# Altium schematic symbol library Integrated Circuit.SchLib: 113 symbols
Pins are listed as number, name and electrical type; pins without a type are passive.

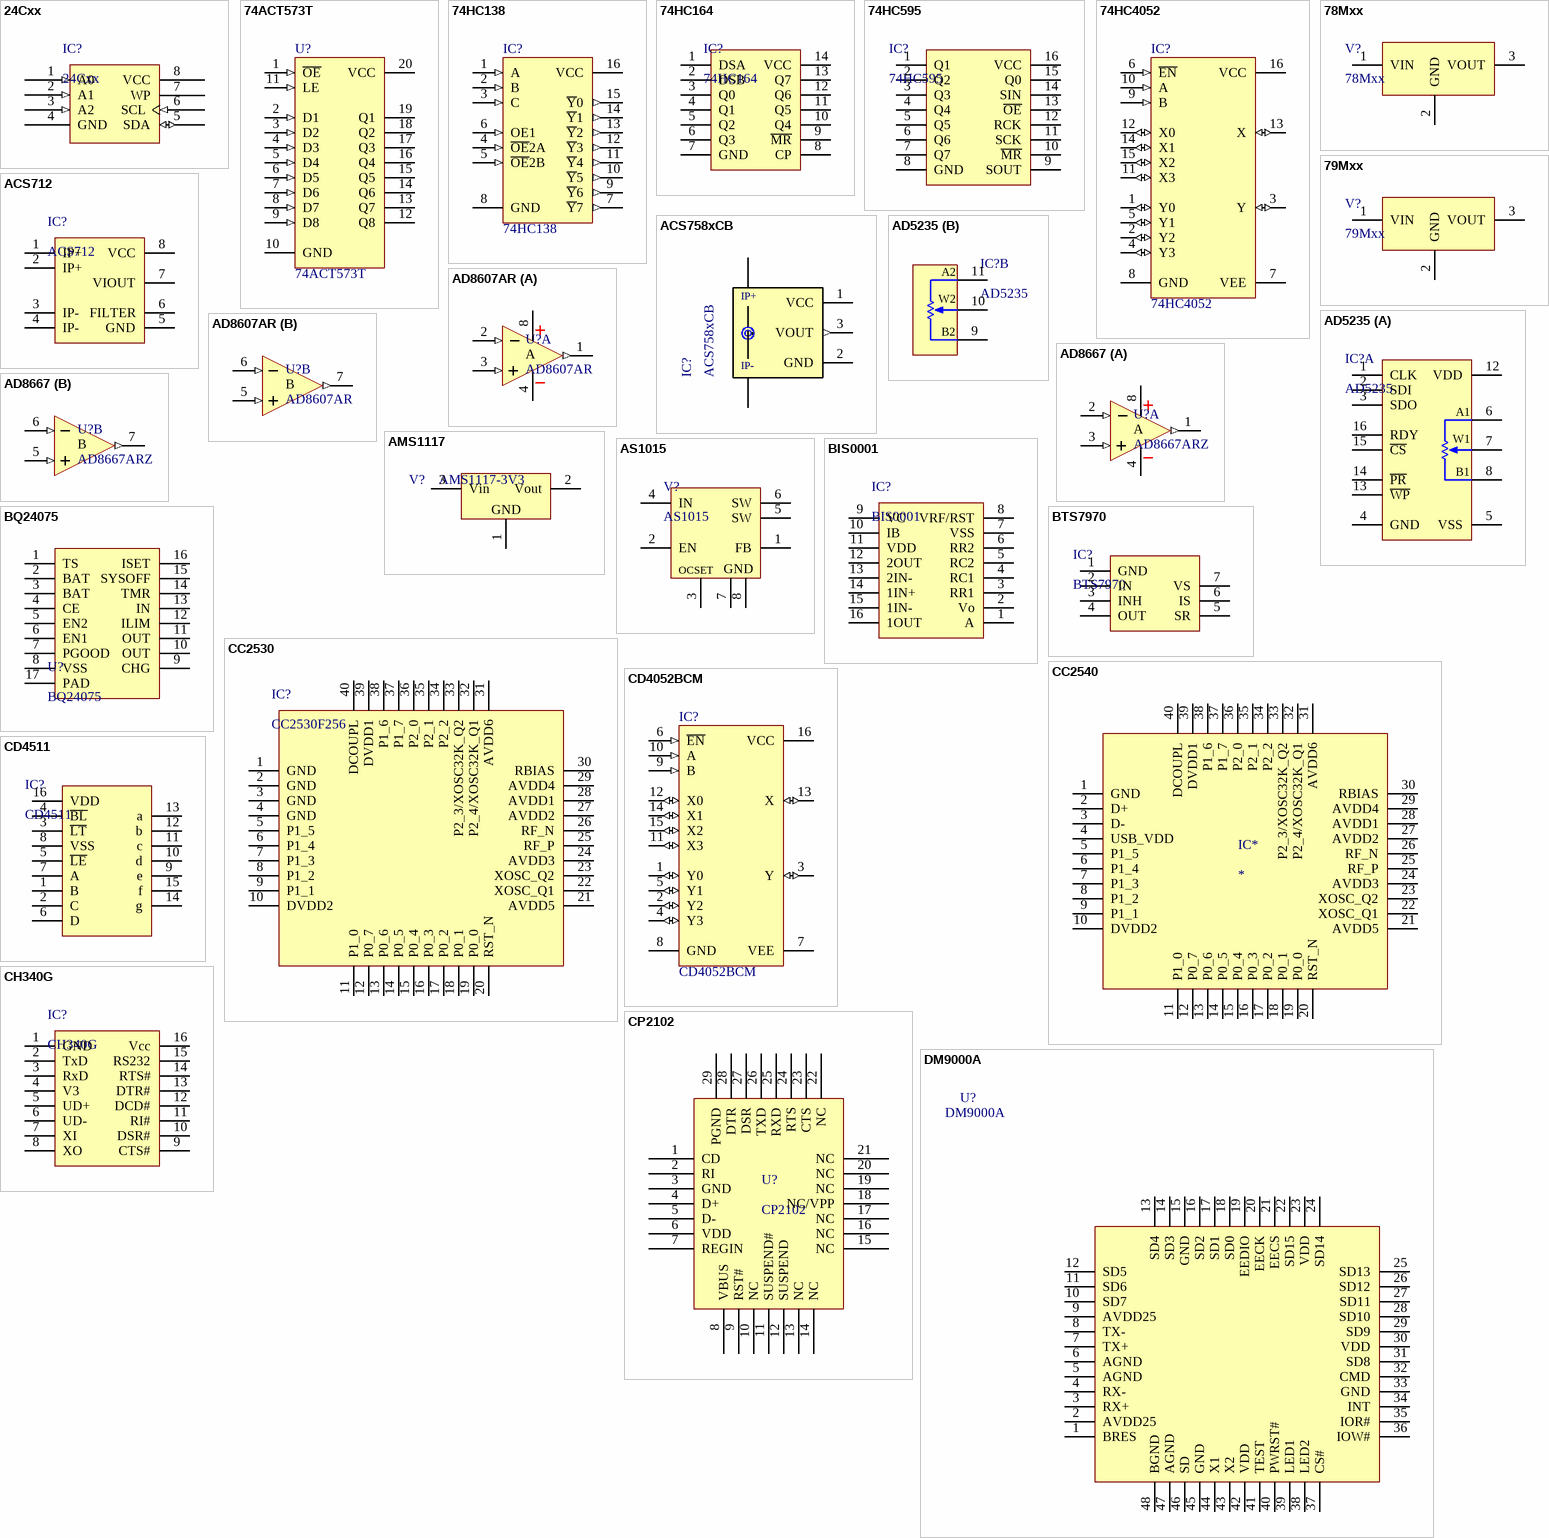
[diagram p0: symbols 24Cxx to DM9000A]

## 24Cxx
designator IC?
Two-wire Serial EEPROM; BOM名称: 外置EEPROM; 版权归属: 源创客; 学习资源: www.ooocke.com
footprint SOP8_L (5*6*1.8mm（长宽高）)
footprint SOP8_N (5*6*1.8mm（长宽高）)
footprint SOP8_M (5*6*1.8mm（长宽高）)
pins: 1 A0 (in), 2 A1 (in), 3 A2 (in), 4 GND, 5 SDA (io), 6 SCL (in), 7 WP, 8 VCC (power)

## 74ACT573T
designator U?
Class D tri-state output latch; BOM名称: 三态输出锁存器; 版权归属: 源创客; 学习资源: www.ooocke.com
footprint SOP20_L (13*10.6*2.6（长宽高）)
footprint SOP20_N (13*10.6*2.6（长宽高）)
footprint SOP20_M (13*10.6*2.6（长宽高）)
footprint DIP20-300 (26.4*7.6*3.8(长宽高）)
pins: 1 ~{OE} (in), 2 D1 (in), 3 D2 (in), 4 D3 (in), 5 D4 (in), 6 D5 (in), 7 D6 (in), 8 D7 (in), 9 D8 (in), 10 GND (power), 11 LE (in), 12 Q8 (hiz), 13 Q7 (hiz), 14 Q6 (hiz), 15 Q5 (hiz), 16 Q4 (hiz), 17 Q3 (hiz), 18 Q2 (hiz), 19 Q1 (hiz), 20 VCC (power)

## 74HC138
designator IC?
138 decoder; 版权归属: 源创客; BOM名称: 138译码器; 学习资源: www.ooocke.com
footprint DIP16-300 (19.3*7.6*3.8(长宽高）)
footprint SOP16_L (10.3*6.2*1.8mm（长宽高）)
footprint SOP16_N (10.3*6.2*1.8mm（长宽高）)
footprint SOP16_M (10.3*6.2*1.8mm（长宽高）)
pins: 1 A (in), 2 B (in), 3 C (in), 4 ~{OE}2A (in), 5 ~{OE}2B (in), 6 OE1 (in), 7 ~{Y}7 (out), 8 GND (power), 9 ~{Y}6 (out), 10 ~{Y}5 (out), 11 ~{Y}4 (out), 12 ~{Y}3 (out), 13 ~{Y}2 (out), 14 ~{Y}1 (out), 15 ~{Y}0 (out), 16 VCC (power)

## 74HC164
designator IC?
8-bit serial in and out shift register; BOM名称: 8位串入并出移位寄存器; 版权归属: 源创客; 学习资源: www.ooocke.com
footprint SOP14_N (8.7*6.2*1.8mm（长宽高）)
footprint SOP14_L (8.7*6.2*1.8mm（长宽高）)
footprint SOP14_M (8.7*6.2*1.8mm（长宽高）)
footprint DIP14-300 (19*7.6*3.8(长宽高）)
pins: 1 DSA, 2 DSB, 3 Q0, 4 Q1, 5 Q2, 6 Q3, 7 GND, 8 CP, 9 ~{MR}, 10 Q4, 11 Q5, 12 Q6, 13 Q7, 14 VCC

## 74HC595
designator IC?
8-bit shift register; BOM名称: 8位移位寄存器; 版权归属: 源创客; 学习资源: www.ooocke.com
footprint SOP16_N (10.3*6.2*1.8mm（长宽高）)
footprint SOP16_L (10.3*6.2*1.8mm（长宽高）)
footprint SOP16_M (10.3*6.2*1.8mm（长宽高）)
footprint DIP16-300 (19.3*7.6*3.8(长宽高）)
pins: 1 Q1, 2 Q2, 3 Q3, 4 Q4, 5 Q5, 6 Q6, 7 Q7, 8 GND, 9 SOUT, 10 ~{MR}, 11 SCK, 12 RCK, 13 ~{OE}, 14 SIN, 15 Q0, 16 VCC

## 74HC4052
designator IC?
Dual channel analog switch; BOM名称: 74HC4052双通道模拟开关; 版权归属: 源创客; 学习资源: www.ooocke.com
footprint SOP16_N (10.3*6.2*1.8mm（长宽高）)
footprint SOP16_L (10.3*6.2*1.8mm（长宽高）)
footprint SOP16_M (10.3*6.2*1.8mm（长宽高）)
footprint DIP16-300 (19.3*7.6*3.8(长宽高）)
pins: 1 Y0 (io), 2 Y2 (io), 3 Y (io), 4 Y3 (io), 5 Y1 (io), 6 ~{EN} (in), 7 VEE (power), 8 GND (power), 9 B (in), 10 A (in), 11 X3 (io), 12 X0 (io), 13 X (io), 14 X1 (io), 15 X2 (io), 16 VCC (power)

## 78Mxx
designator V?
Linear regulator chip; BOM名称: 线性稳压芯片; 版权归属: 源创客; 学习资源: www.ooocke.com
footprint TO252 (252晶体管)
footprint TO220A (220，3脚晶体管)
footprint TO220B (220，3脚晶体管)
pins: 1 VIN, 2 GND, 3 VOUT

## 79Mxx
designator V?
Linear regulator chip; BOM名称: 线性稳压芯片; 版权归属: 源创客; 学习资源: www.ooocke.com
footprint TO252 (252晶体管)
footprint TO220A (220，3脚晶体管)
footprint TO220B (220，3脚晶体管)
pins: 1 VIN, 2 GND, 3 VOUT

## ACS712
designator IC?
Current detection chip; BOM名称: 电流检测芯片; 版权归属: 源创客; 学习资源: www.ooocke.com
footprint SOP8_N (5*6*1.8mm（长宽高）)
footprint SOP8_L (5*6*1.8mm（长宽高）)
footprint SOP8_M (5*6*1.8mm（长宽高）)
pins: 1 IP+, 2 IP+, 3 IP-, 4 IP-, 5 GND, 6 FILTER, 7 VIOUT, 8 VCC

## ACS758xCB
designator IC?
Hall-Effect-Based Linear Current Sensor IC with 100 µΩ Current Conductor; SnapEDA_Link: https://www.snapeda.com/parts/ACS758/Allegro%20MicroSystems%20LLC/view-part/226237/?ref=snap; Value: *
footprint ACS758 (Footprint not found)
pins: 1 VCC (power), 2 GND (power), 3 VOUT (out), IP+, IP+@2 IP+, IP+@3 IP+, IP+@4 IP+, IP+@5 IP+, IP+@6 IP+, IP+@7 IP+, IP+@8 IP+, IP+@9 IP+, IP+@10 IP+, IP+@11 IP+, IP+@12 IP+, IP+@13 IP+, IP+@14 IP+, IP+@15 IP+, IP+@16 IP+, IP+@17 IP+, IP-, IP-@2 IP-, IP-@3 IP-, IP-@4 IP-, IP-@5 IP-, IP-@6 IP-, IP-@7 IP-, IP-@8 IP-, IP-@9 IP-, IP-@10 IP-, IP-@11 IP-, IP-@12 IP-, IP-@13 IP-, IP-@14 IP-, IP-@15 IP-, IP-@16 IP-, IP-@17 IP-

## AD5235
designator IC?
Digital potentiometer; BOM名称: 数字电位器; 版权归属: 源创客; 学习资源: www.ooocke.com
footprint TSSOP16_N (5*6.4*1mm（长宽高）)
footprint TSSOP16_L (5*6.4*1mm（长宽高）)
footprint TSSOP16_M (5*6.4*1mm（长宽高）)
part A pins: 1 CLK, 2 SDI, 3 SDO, 4 GND, 5 VSS, 6 A1, 7 W1, 8 B1, 12 VDD, 13 ~{WP}, 14 ~{PR}, 15 ~{CS}, 16 RDY
part B pins: 9 B2, 10 W2, 11 A2

## AD8607AR
designator U?
Double op amp; BOM名称: 双运放; 版权归属: 源创客; 学习资源: www.ooocke.com
footprint SOP8_N (5*6*1.8mm（长宽高）)
footprint SOP8_L (5*6*1.8mm（长宽高）)
footprint SOP8_M (5*6*1.8mm（长宽高）)
part A pins: 1 OUT1 (out), 2 IN1- (in), 3 IN1- (in), 4 VCC- (power), 8 VCC+ (power)
part B pins: 5 IN2- (in), 6 IN2- (in), 7 OUT2 (out)
part A text: A
part B text: B

## AD8667
designator U?, comment AD8667ARZ
Double op amp; BOM名称: 双运放; 版权归属: 源创客; 学习资源: www.ooocke.com
footprint SOP8_N (5*6*1.8mm（长宽高）)
footprint SOP8_L (5*6*1.8mm（长宽高）)
footprint SOP8_M (5*6*1.8mm（长宽高）)
part A pins: 1 OUT1 (out), 2 IN1- (in), 3 IN1- (in), 4 VCC- (power), 8 VCC+ (power)
part B pins: 5 IN2- (in), 6 IN2- (in), 7 OUT2 (out)
part A text: A
part B text: B

## AMS1117
designator V?, comment AMS1117-3V3
Three-terminal regulator chip; BOM名称: 稳压芯片; 版权归属: 源创客; 学习资源: www.ooocke.com
footprint SOT223_L (6.4x7x1.6mm(长宽高))
footprint SOT223_M (6.4x7x1.6mm(长宽高))
footprint SOT223_N (6.4x7x1.6mm(长宽高))
footprint SOT89_L (4.6x4.3x1.6mm(长宽高))
footprint SOT89_N (4.6x4.3x1.6mm(长宽高))
footprint SOT89_M (4.6x4.3x1.6mm(长宽高))
pins: 1 GND, 2 Vout, 3 Vin

## AS1015
designator V?
Adjustable boost chip; BOM名称: 可调升压芯片; 版权归属: 源创客; 学习资源: www.ooocke.com
footprint SOP8_N (5*6*1.8mm（长宽高）)
footprint SOP8_L (5*6*1.8mm（长宽高）)
footprint SOP8_M (5*6*1.8mm（长宽高）)
pins: 1 FB (power), 2 EN (power), 3 OCSET (power), 4 IN (power), 5 SW (power), 6 SW (power), 7 GND (power), 8 GND (power)

## BIS0001
designator IC?
Human body infrared chip; 版权归属: 源创客; BOM名称: BIS0001; 学习资源: www.ooocke.com
footprint SOP16_N (10.3*6.2*1.8mm（长宽高）)
footprint SOP16_L (10.3*6.2*1.8mm（长宽高）)
footprint SOP16_M (10.3*6.2*1.8mm（长宽高）)
pins: 1 A, 2 Vo, 3 RR1, 4 RC1, 5 RC2, 6 RR2, 7 VSS, 8 VRF/RST, 9 VC, 10 IB, 11 VDD, 12 2OUT, 13 2IN-, 14 1IN+, 15 1IN-, 16 1OUT

## BQ24075
designator U?
Power; Type: QFN16 P0.5
footprint QFN_P0.5_PAD_16
pins: 1 TS, 2 BAT, 3 BAT, 4 CE, 5 EN2, 6 EN1, 7 PGOOD, 8 VSS, 9 CHG, 10 OUT, 11 OUT, 12 ILIM, 13 IN, 14 TMR, 15 SYSOFF, 16 ISET, 17 PAD

## BTS7970
designator IC?
Motor drive chip; BOM名称: 电机驱动芯片; 版权归属: 源创客; 学习资源: www.ooocke.com
footprint TO263-7A (263，7脚晶体管)
footprint TO263-7B (263，7脚晶体管)
pins: 1 GND (power), 2 IN (power), 3 INH (power), 4 OUT (power), 5 SR (power), 6 IS (power), 7 VS (power)

## CC2530
designator IC?, comment CC2530F256
ZigBee2.4G wireless networking chip; BOM名称: ZigBee2.4G无线组网芯片; 版权归属: 源创客; 学习资源: www.ooocke.com
footprint QFN40 6X6_L (40脚，体宽：6x6mm，脚距：0.5mm)
footprint QFN40 6X6_M (40脚，体宽：6x6mm，脚距：0.5mm)
footprint QFN40 6X6_N (40脚，体宽：6x6mm，脚距：0.5mm)
pins: 1 GND, 2 GND, 3 GND, 4 GND, 5 P1_5, 6 P1_4, 7 P1_3, 8 P1_2, 9 P1_1, 10 DVDD2, 11 P1_0, 12 P0_7, 13 P0_6, 14 P0_5, 15 P0_4, 16 P0_3, 17 P0_2, 18 P0_1, 19 P0_0, 20 RST_N, 21 AVDD5, 22 XOSC_Q1, 23 XOSC_Q2, 24 AVDD3, 25 RF_P, 26 RF_N, 27 AVDD2, 28 AVDD1, 29 AVDD4, 30 RBIAS, 31 AVDD6, 32 P2_4/XOSC32K_Q1, 33 P2_3/XOSC32K_Q2, 34 P2_2, 35 P2_1, 36 P2_0, 37 P1_7, 38 P1_6, 39 DVDD1, 40 DCOUPL

## CC2540
designator IC*
ZigBee2.4G wireless networking chip
footprint QFN40 6X6_L (40脚，体宽：6x6mm，脚距：0.5mm)
footprint QFN40 6X6_M (40脚，体宽：6x6mm，脚距：0.5mm)
footprint QFN40 6X6_N (40脚，体宽：6x6mm，脚距：0.5mm)
pins: 1 GND, 2 D+, 3 D-, 4 USB_VDD, 5 P1_5, 6 P1_4, 7 P1_3, 8 P1_2, 9 P1_1, 10 DVDD2, 11 P1_0, 12 P0_7, 13 P0_6, 14 P0_5, 15 P0_4, 16 P0_3, 17 P0_2, 18 P0_1, 19 P0_0, 20 RST_N, 21 AVDD5, 22 XOSC_Q1, 23 XOSC_Q2, 24 AVDD3, 25 RF_P, 26 RF_N, 27 AVDD2, 28 AVDD1, 29 AVDD4, 30 RBIAS, 31 AVDD6, 32 P2_4/XOSC32K_Q1, 33 P2_3/XOSC32K_Q2, 34 P2_2, 35 P2_1, 36 P2_0, 37 P1_7, 38 P1_6, 39 DVDD1, 40 DCOUPL

## CD4052BCM
designator IC?
Dual channel analog switch; BOM名称: 双通道模拟开关; 版权归属: 源创客; 学习资源: www.ooocke.com
footprint SOP16_M (10.3*6.2*1.8mm（长宽高）)
footprint SOP16_L (10.3*6.2*1.8mm（长宽高）)
footprint SOP16_N (10.3*6.2*1.8mm（长宽高）)
footprint DIP16-300 (19.3*7.6*3.8(长宽高）)
pins: 1 Y0 (io), 2 Y2 (io), 3 Y (io), 4 Y3 (io), 5 Y1 (io), 6 ~{EN} (in), 7 VEE (power), 8 GND (power), 9 B (in), 10 A (in), 11 X3 (io), 12 X0 (io), 13 X (io), 14 X1 (io), 15 X2 (io), 16 VCC (power)

## CD4511
designator IC?
Seven-segment code decoder; BOM名称: 七段码译码器; 版权归属: 源创客; 学习资源: www.ooocke.com
footprint DIP16-300 (19.3*7.6*3.8(长宽高）)
pins: 1 B, 2 C, 3 ~{LT}, 4 ~{BL}, 5 ~{LE}, 6 D, 7 A, 8 VSS, 9 e, 10 d, 11 c, 12 b, 13 a, 14 g, 15 f, 16 VDD

## CH340G
designator IC?
Serial to USB; BOM名称: 串口转USB; 版权归属: 源创客; 学习资源: www.ooocke.com
footprint SOP16_L (10.3*6.2*1.8mm（长宽高）)
footprint SOP16_N (10.3*6.2*1.8mm（长宽高）)
footprint SOP16_M (10.3*6.2*1.8mm（长宽高）)
footprint DIP16-300 (19.3*7.6*3.8(长宽高）)
pins: 1 GND, 2 TxD, 3 RxD, 4 V3, 5 UD+, 6 UD-, 7 XI, 8 XO, 9 CTS#, 10 DSR#, 11 RI#, 12 DCD#, 13 DTR#, 14 RTS#, 15 RS232, 16 Vcc

## CP2102
designator U?
USB to USRT converter
footprint QFN28 (PQFN, 28-Leads, Body 5.00x5.00mm, Pitch 0.50mm, Thermal Pad 3.24x3.24mm, IPC Medium Density)
pins: 1 CD, 2 RI, 3 GND, 4 D+, 5 D-, 6 VDD, 7 REGIN, 8 VBUS, 9 RST#, 10 NC, 11 SUSPEND#, 12 SUSPEND, 13 NC, 14 NC, 15 NC, 16 NC, 17 NC, 18 NC/VPP, 19 NC, 20 NC, 21 NC, 22 NC, 23 CTS, 24 RTS, 25 RXD, 26 TXD, 27 DSR, 28 DTR, 29 PGND

## DM9000A
designator U?
Network chip; BOM名称: 网络芯片; 版权归属: 源创客; 学习资源: www.ooocke.com
footprint LQFP48 7X7_N (48脚，体宽7x7mm，脚距0.5mm)
footprint LQFP48 7X7_L (48脚，体宽7x7mm，脚距0.5mm)
footprint LQFP48 7X7_M (48脚，体宽7x7mm，脚距0.5mm)
pins: 1 BRES, 2 AVDD25, 3 RX+, 4 RX-, 5 AGND, 6 AGND, 7 TX+, 8 TX-, 9 AVDD25, 10 SD7, 11 SD6, 12 SD5, 13 SD4, 14 SD3, 15 GND, 16 SD2, 17 SD1, 18 SD0, 19 EEDIO, 20 EECK, 21 EECS, 22 SD15, 23 VDD, 24 SD14, 25 SD13, 26 SD12, 27 SD11, 28 SD10, 29 SD9, 30 VDD, 31 SD8, 32 CMD, 33 GND, 34 INT, 35 IOR#, 36 IOW#, 37 CS#, 38 LED2, 39 LED1, 40 PWRST#, 41 TEST, 42 VDD, 43 X2, 44 X1, 45 GND, 46 SD, 47 AGND, 48 BGND

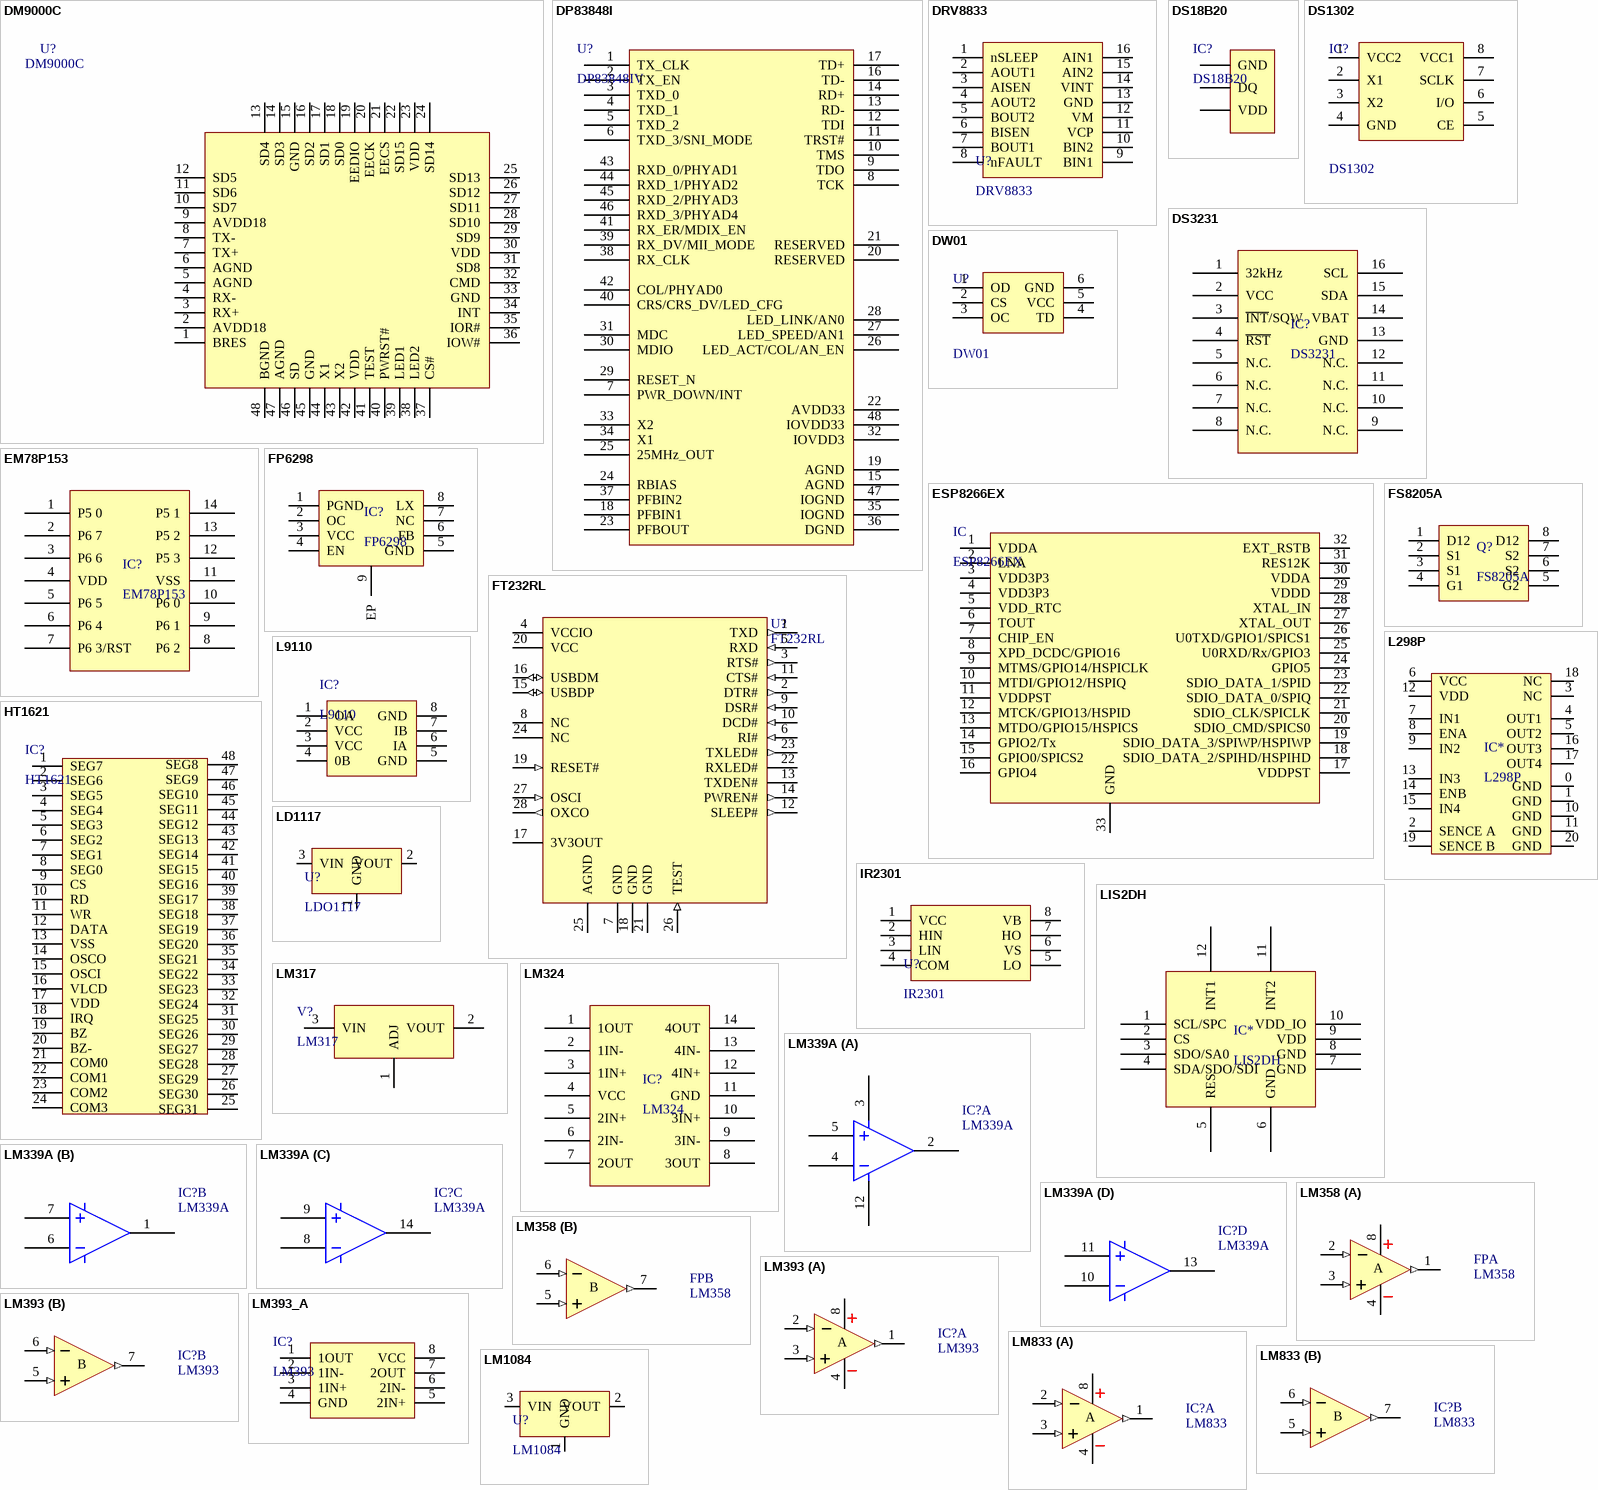
[diagram p1: symbols DM9000C to LM1084]

## DM9000C
designator U?
Network chip; BOM名称: 网络芯片; 版权归属: 源创客; 学习资源: www.ooocke.com
footprint LQFP48 7X7_N (48脚，体宽7x7mm，脚距0.5mm)
footprint LQFP48 7X7_L (48脚，体宽7x7mm，脚距0.5mm)
footprint LQFP48 7X7_M (48脚，体宽7x7mm，脚距0.5mm)
pins: 1 BRES, 2 AVDD18, 3 RX+, 4 RX-, 5 AGND, 6 AGND, 7 TX+, 8 TX-, 9 AVDD18, 10 SD7, 11 SD6, 12 SD5, 13 SD4, 14 SD3, 15 GND, 16 SD2, 17 SD1, 18 SD0, 19 EEDIO, 20 EECK, 21 EECS, 22 SD15, 23 VDD, 24 SD14, 25 SD13, 26 SD12, 27 SD11, 28 SD10, 29 SD9, 30 VDD, 31 SD8, 32 CMD, 33 GND, 34 INT, 35 IOR#, 36 IOW#, 37 CS#, 38 LED2, 39 LED1, 40 PWRST#, 41 TEST, 42 VDD, 43 X2, 44 X1, 45 GND, 46 SD, 47 AGND, 48 BGND

## DP83848I
designator U?, comment DP83848IV
Network chip; BOM名称: 网络芯片; 版权归属: 源创客; 学习资源: www.ooocke.com
footprint LQFP48 7X7_N (48脚，体宽7x7mm，脚距0.5mm)
footprint LQFP48 7X7_L (48脚，体宽7x7mm，脚距0.5mm)
footprint LQFP48 7X7_M (48脚，体宽7x7mm，脚距0.5mm)
pins: 1 TX_CLK, 2 TX_EN, 3 TXD_0, 4 TXD_1, 5 TXD_2, 6 TXD_3/SNI_MODE, 7 PWR_DOWN/INT, 8 TCK, 9 TDO, 10 TMS, 11 TRST#, 12 TDI, 13 RD-, 14 RD+, 15 AGND, 16 TD-, 17 TD+, 18 PFBIN1, 19 AGND, 20 RESERVED, 21 RESERVED, 22 AVDD33, 23 PFBOUT, 24 RBIAS, 25 25MHz_OUT, 26 LED_ACT/COL/AN_EN, 27 LED_SPEED/AN1, 28 LED_LINK/AN0, 29 RESET_N, 30 MDIO, 31 MDC, 32 IOVDD3, 33 X2, 34 X1, 35 IOGND, 36 DGND, 37 PFBIN2, 38 RX_CLK, 39 RX_DV/MII_MODE, 40 CRS/CRS_DV/LED_CFG, 41 RX_ER/MDIX_EN, 42 COL/PHYAD0, 43 RXD_0/PHYAD1, 44 RXD_1/PHYAD2, 45 RXD_2/PHYAD3, 46 RXD_3/PHYAD4, 47 IOGND, 48 IOVDD33

## DRV8833
designator U?
H-Bridge; Type: *
footprint TSSOP_E170_P0.65_16
pins: 1 nSLEEP, 2 AOUT1, 3 AISEN, 4 AOUT2, 5 BOUT2, 6 BISEN, 7 BOUT1, 8 nFAULT, 9 BIN1, 10 BIN2, 11 VCP, 12 VM, 13 GND, 14 VINT, 15 AIN2, 16 AIN1

## DS18B20
designator IC?
Digital Thermometer; BOM名称: 数字温度计; 版权归属: 源创客; 学习资源: www.ooocke.com
footprint TO92A (92晶体管)
footprint TO92B (92晶体管)
pins: 1 GND, 2 DQ, 3 VDD

## DS1302
designator IC?
Real time clock chip; BOM名称: 实时时钟芯片; 版权归属: 源创客; 学习资源: www.ooocke.com
footprint SOP8_N (5*6*1.8mm（长宽高）)
footprint SOP8_L (5*6*1.8mm（长宽高）)
footprint SOP8_M (5*6*1.8mm（长宽高）)
footprint DIP8-300 (9.4*7.6*3.8(长宽高）)
pins: 1 VCC2, 2 X1, 3 X2, 4 GND, 5 CE, 6 I/O, 7 SCLK, 8 VCC1

## DS3231
designator IC?
Real time clock chip
footprint SOP16W_L (10.3*10.3*2.6mm£¨³¤¿í¸ß£©)
footprint SOP16W_M (10.3*10.3*2.6mm£¨³¤¿í¸ß£©)
footprint SOP16W_N (10.3*10.3*2.6mm£¨³¤¿í¸ß£©)
pins: 1 32kHz, 2 VCC, 3 ~{INT}/SQW, 4 ~{RST}, 5 N.C., 6 N.C., 7 N.C., 8 N.C., 9 N.C., 10 N.C., 11 N.C., 12 N.C., 13 GND, 14 VBAT, 15 SDA, 16 SCL

## DW01
designator U?
Lithium battery overcurrent protection IC; BOM名称: 过流保护IC; 版权归属: 源创客; 学习资源: www.ooocke.com
footprint SOT23-6L (3x1.6x1.1mm(长宽高))
footprint SOT23-6M (3x1.6x1.1mm(³¤¿í¸ß))
footprint SOT23-6N (3x1.6x1.1mm(³¤¿í¸ß))
pins: 1 OD, 2 CS, 3 OC, 4 TD, 5 VCC, 6 GND

## EM78P153
designator IC?
Ultrasonic master chip
footprint SOP14_L (8.7*6.2*1.8mm（长宽高）)
footprint SOP14_M (8.7*6.2*1.8mm（长宽高）)
footprint SOP14_N (8.7*6.2*1.8mm（长宽高）)
pins: 1 P5 0, 2 P6 7, 3 P6 6, 4 VDD, 5 P6 5, 6 P6 4, 7 P6 3/RST, 8 P6 2, 9 P6 1, 10 P6 0, 11 VSS, 12 P5 3, 13 P5 2, 14 P5 1

## ESP8266EX
designator IC
WIFI-chip; BOM名称: WIFI-芯片; 版权归属: 源创客; 学习资源: www.ooocke.com
footprint QFN32_L
footprint QFN32_M
footprint QFN32_N
pins: 1 VDDA, 2 LNA, 3 VDD3P3, 4 VDD3P3, 5 VDD_RTC, 6 TOUT, 7 CHIP_EN, 8 XPD_DCDC/GPIO16, 9 MTMS/GPIO14/HSPICLK, 10 MTDI/GPIO12/HSPIQ, 11 VDDPST, 12 MTCK/GPIO13/HSPID, 13 MTDO/GPIO15/HSPICS, 14 GPIO2/Tx, 15 GPIO0/SPICS2, 16 GPIO4, 17 VDDPST, 18 SDIO_DATA_2/SPIHD/HSPIHD, 19 SDIO_DATA_3/SPIWP/HSPIWP, 20 SDIO_CMD/SPICS0, 21 SDIO_CLK/SPICLK, 22 SDIO_DATA_0/SPIQ, 23 SDIO_DATA_1/SPID, 24 GPIO5, 25 U0RXD/Rx/GPIO3, 26 U0TXD/GPIO1/SPICS1, 27 XTAL_OUT, 28 XTAL_IN, 29 VDDD, 30 VDDA, 31 RES12K, 32 EXT_RSTB, 33 GND

## FP6298
designator IC?
FP6298 Low-Noise 4.5A Step-Up Current Mode PWM
footprint SOP8_L-EP (5*6*1.8mm£¨³¤¿í¸ß£©)
pins: 1 PGND, 2 OC, 3 VCC, 4 EN, 5 GND, 6 FB, 7 NC, 8 LX, 9 EP "Exposed Pad (GND)"

## FS8205A
designator Q?
Dual N-Channel Enhancement Mode Power MOSFET
footprint SSOP8_L (3*6.4*1.2mm£¨³¤¿í¸ß£©)
footprint SSOP8_M (3*6.4*1.2mm£¨³¤¿í¸ß£©)
footprint SSOP8_N (3*6.4*1.2mm£¨³¤¿í¸ß£©)
pins: 1 D12, 2 S1, 3 S1, 4 G1, 5 G2, 6 S2, 7 S2, 8 D12

## FT232RL
designator U?
USB to serial port; BOM名称: USB转串口; 版权归属: 源创客; 学习资源: www.ooocke.com
footprint SSOP28_N (10.2*7.8*1.9mm(长宽高）)
footprint SSOP28_L (10.2*7.8*1.9mm(长宽高）)
footprint SSOP28_M (10.2*7.8*1.9mm(长宽高）)
pins: 1 TXD (out), 2 DTR# (out), 3 RTS# (out), 4 VCCIO (power), 5 RXD (in), 6 RI# (in), 7 GND (power), 8 NC, 9 DSR# (in), 10 DCD# (in), 11 CTS# (in), 12 SLEEP# (out), 13 TXDEN# (oc), 14 PWREN# (out), 15 USBDP (io), 16 USBDM (io), 17 3V3OUT (power), 18 GND (power), 19 RESET# (in), 20 VCC (power), 21 GND (power), 22 RXLED# (oc), 23 TXLED# (out), 24 NC, 25 AGND (power), 26 TEST (in), 27 OSCI (in), 28 OXCO (out)

## HT1621
designator IC?
LCD driver chip; BOM名称: LCD驱动芯片; 版权归属: 源创客; 学习资源: www.ooocke.com
footprint SSOP48_N (16*10.3*2.4mm（长宽高）)
footprint SSOP48_L (16*10.3*2.4mm（长宽高）)
footprint SSOP48_M (16*10.3*2.4mm（长宽高）)
pins: 1 SEG7, 2 SEG6, 3 SEG5, 4 SEG4, 5 SEG3, 6 SEG2, 7 SEG1, 8 SEG0, 9 CS, 10 RD, 11 WR, 12 DATA, 13 VSS, 14 OSCO, 15 OSCI, 16 VLCD, 17 VDD, 18 IRQ, 19 BZ, 20 BZ-, 21 COM0, 22 COM1, 23 COM2, 24 COM3, 25 SEG31, 26 SEG30, 27 SEG29, 28 SEG28, 29 SEG27, 30 SEG26, 31 SEG25, 32 SEG24, 33 SEG23, 34 SEG22, 35 SEG21, 36 SEG20, 37 SEG19, 38 SEG18, 39 SEG17, 40 SEG16, 41 SEG15, 42 SEG14, 43 SEG13, 44 SEG12, 45 SEG11, 46 SEG10, 47 SEG9, 48 SEG8

## IR2301
designator U?
MOSFET Driver; Type: *
footprint SOP_E150_8
pins: 1 VCC, 2 HIN, 3 LIN, 4 COM, 5 LO, 6 VS, 7 HO, 8 VB

## L298P
designator IC*
Two-way DC motor drive chip
footprint P-SOP20
pins: 0 GND, 1 GND, 2 SENCE A, 3 NC, 4 OUT1, 5 OUT2, 6 VCC, 7 IN1, 8 ENA, 9 IN2, 10 GND, 11 GND, 12 VDD, 13 IN3, 14 ENB, 15 IN4, 16 OUT3, 17 OUT4, 18 NC, 19 SENCE B, 20 GND

## L9110
designator IC?
DC motor control chip; BOM名称: 直流电机控制芯片; 版权归属: 源创客; 学习资源: www.ooocke.com
footprint DIP8-300 (9.4*7.6*3.8(长宽高）)
footprint SOP8_L (5*6*1.8mm（长宽高）)
footprint SOP8_N (5*6*1.8mm（长宽高）)
footprint SOP8_M (5*6*1.8mm（长宽高）)
pins: 1 OA, 2 VCC, 3 VCC, 4 0B, 5 GND, 6 IA, 7 IB, 8 GND

## LD1117
designator U?, comment LDO1117
Power; Type: SOT223-3
footprint SOT223-3
footprint SOT89-3
pins: 1 GND, 2 VOUT, 3 VIN

## LIS2DH
designator IC*
Accelerometer
footprint LGA-12
pins: 1 SCL/SPC, 2 CS, 3 SDO/SA0, 4 SDA/SDO/SDI, 5 RES, 6 GND, 7 GND, 8 GND, 9 VDD, 10 VDD_IO, 11 INT2, 12 INT1

## LM317
designator V?
Adjustable linear regulator chip; BOM名称: 可调线性稳压芯片; 版权归属: 源创客; 学习资源: www.ooocke.com
footprint TO252 (252晶体管)
footprint TO220A (220，3脚晶体管)
footprint TO220B (220，3脚晶体管)
pins: 1 ADJ, 2 VOUT, 3 VIN

## LM324
designator IC?
Four-way op amp
footprint SOP14_L (8.7*6.2*1.8mm（长宽高）)
footprint SOP14_M (8.7*6.2*1.8mm（长宽高）)
footprint SOP14_N (8.7*6.2*1.8mm（长宽高）)
footprint DIP14-300 (19*7.6*3.8(长宽高）)
footprint DIP14-300_MH (带底座  19*7.6*3.8(长宽高）)
pins: 1 1OUT, 2 1IN-, 3 1IN+, 4 VCC, 5 2IN+, 6 2IN-, 7 2OUT, 8 3OUT, 9 3IN-, 10 3IN+, 11 GND, 12 4IN+, 13 4IN-, 14 4OUT

## LM339A
designator IC?
Quad voltage comparator
footprint DIP14-300 (19*7.6*3.8(长宽高）)
footprint DIP14-300_MH (带底座  19*7.6*3.8(长宽高）)
footprint SOP14_L (8.7*6.2*1.8mm（长宽高）)
footprint SOP14_M (8.7*6.2*1.8mm（长宽高）)
footprint SOP14_N (8.7*6.2*1.8mm（长宽高）)
part A pins: 2, 3, 4, 5, 12
part B pins: 1, 6, 7
part C pins: 8, 9, 14
part D pins: 10, 11, 13

## LM358
designator FP
Dual op amp; BOM名称: 双路运放; 版权归属: 源创客; 学习资源: www.ooocke.com
footprint SOP8_L (5*6*1.8mm（长宽高）)
footprint SOP8_N (5*6*1.8mm（长宽高）)
footprint SOP8_M (5*6*1.8mm（长宽高）)
footprint DIP8-300 (9.4*7.6*3.8(长宽高）)
part A pins: 1 OUT1 (out), 2 IN1- (in), 3 IN1- (in), 4 VCC- (power), 8 VCC+ (power)
part B pins: 5 IN2- (in), 6 IN2- (in), 7 OUT2 (out)
part A text: A
part B text: B

## LM393
designator IC?
Dual voltage comparison; BOM名称: 双路电压比较; 版权归属: 源创客; 学习资源: www.ooocke.com
footprint SOP8_L (5*6*1.8mm（长宽高）)
footprint SOP8_N (5*6*1.8mm（长宽高）)
footprint SOP8_M (5*6*1.8mm（长宽高）)
footprint DIP8-300 (9.4*7.6*3.8(长宽高）)
part A pins: 1 OUT1 (out), 2 IN1- (in), 3 IN1- (in), 4 VCC- (power), 8 VCC+ (power)
part B pins: 5 IN2- (in), 6 IN2- (in), 7 OUT2 (out)
part A text: A
part B text: B

## LM393_A
designator IC?, comment LM393
Dual voltage comparison; BOM名称: 双路电压比较; 版权归属: 源创客; 学习资源: www.ooocke.com
footprint DIP8-300 (9.4*7.6*3.8(长宽高）)
footprint SOP8_L (5*6*1.8mm（长宽高）)
footprint SOP8_N (5*6*1.8mm（长宽高）)
footprint SOP8_M (5*6*1.8mm（长宽高）)
pins: 1 1OUT, 2 1IN-, 3 1IN+, 4 GND, 5 2IN+, 6 2IN-, 7 2OUT, 8 VCC

## LM833
designator IC?
Shuāng lù yùn fàng / 4/5000 / Dual op amp; BOM名称: 双路运放; 版权归属: 源创客; 学习资源: www.ooocke.com
footprint SOP8_L (5*6*1.8mm（长宽高）)
footprint SOP8_N (5*6*1.8mm（长宽高）)
footprint SOP8_M (5*6*1.8mm（长宽高）)
footprint DIP8-300 (9.4*7.6*3.8(长宽高）)
part A pins: 1 OUT1 (out), 2 IN1- (in), 3 IN1- (in), 4 VCC- (power), 8 VCC+ (power)
part B pins: 5 IN2- (in), 6 IN2- (in), 7 OUT2 (out)
part A text: A
part B text: B

## LM1084
designator U?
Power
footprint TO-263-3
pins: 1 GND, 2 VOUT (power), 3 VIN

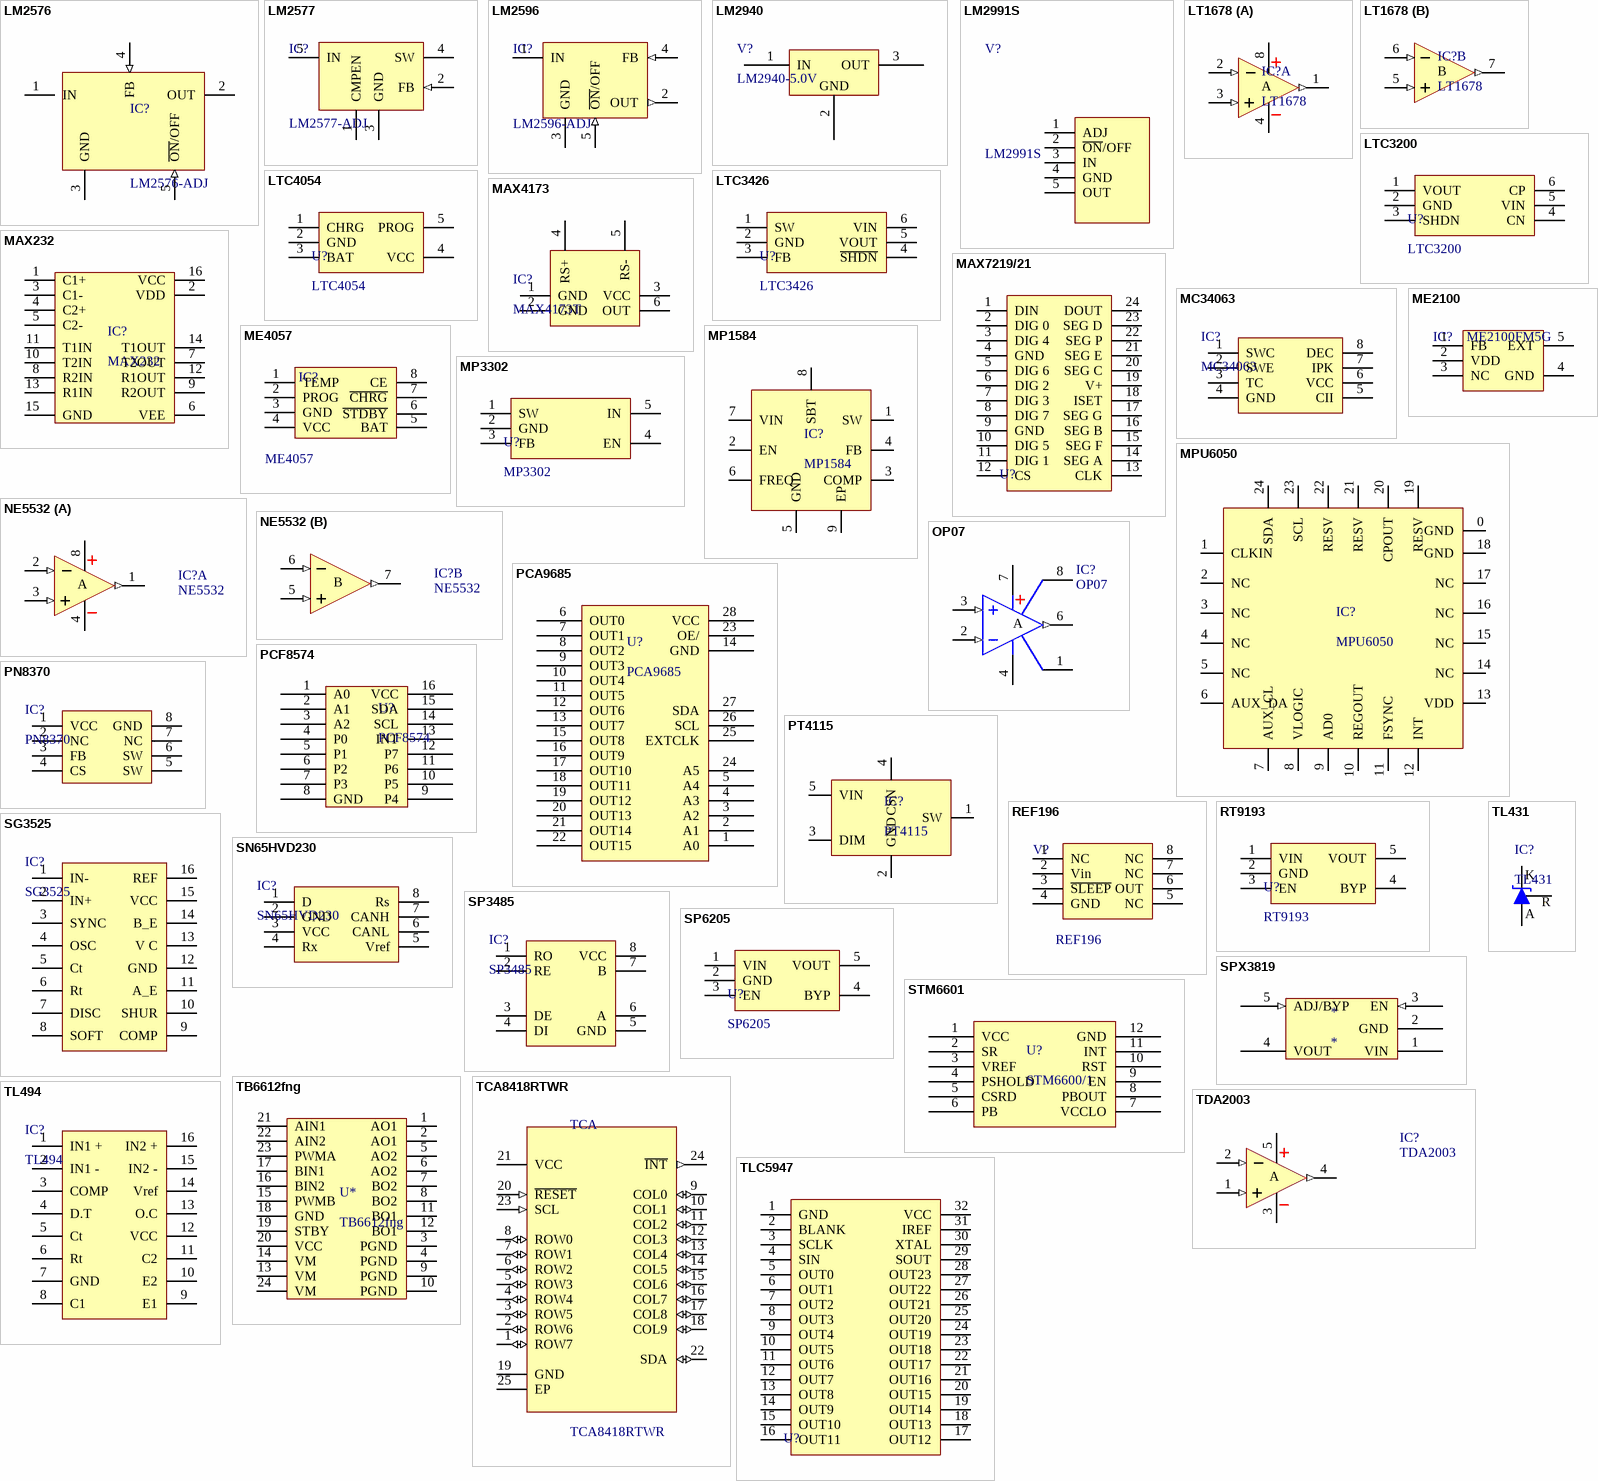
[diagram p2: symbols LM2576 to TLC5947]

## LM2576
designator IC?, comment LM2576-ADJ
DC step-down chip; BOM名称: DC降压芯片; 版权归属: 源创客; 学习资源: www.ooocke.com
footprint TO220-5A (220，5脚晶体管)
footprint TO220-5B (220，5脚晶体管)
footprint TO220-5C (220，5脚晶体管)
footprint TO263-5A (263£¬5½Å¾§Ìå¹Ü)
pins: 1 IN (power), 2 OUT (power), 3 GND (power), 4 FB (in), 5 ~{ON}/OFF (in)

## LM2577
designator IC?, comment LM2577-ADJ
DC boost chip; BOM名称: DC升压芯片; 版权归属: 源创客; 学习资源: www.ooocke.com
footprint TO220-5A (220，5脚晶体管)
footprint TO220-5B (220，5脚晶体管)
footprint TO220-5C (220，5脚晶体管)
pins: 1 CMPEN, 2 FB (in), 3 GND (power), 4 SW (power), 5 IN (power)

## LM2596
designator IC?, comment LM2596-ADJ
DC step-down chip; BOM名称: DC稳压芯片; 版权归属: 源创客; 学习资源: www.ooocke.com
footprint TO220-5A (220，5脚晶体管)
footprint TO220-5B (220，5脚晶体管)
footprint TO220-5C (220，5脚晶体管)
footprint TO263-5A (263£¬5½Å¾§Ìå¹Ü)
pins: 1 IN (power), 2 OUT (out), 3 GND (power), 4 FB (in), 5 ~{ON}/OFF (in)

## LM2940
designator V?, comment LM2940-5.0V
5V regulator chip; BOM名称: 5V稳压芯片; 版权归属: 源创客; 学习资源: www.ooocke.com
footprint TO220A (220，3脚晶体管)
footprint TO220B (220，3脚晶体管)
pins: 1 IN (power), 2 GND (power), 3 OUT (power)

## LM2991S
designator V?
Adjustable voltage regulator chip; BOM名称: 可调稳压芯片; 版权归属: 源创客; 学习资源: www.ooocke.com
footprint TO220-5A (220，5脚晶体管)
footprint TO220-5B (220，5脚晶体管)
footprint TO220-5C (220，5脚晶体管)
pins: 1 ADJ, 2 ~{ON}/OFF, 3 IN, 4 GND, 5 OUT

## LT1678
designator IC?
Double op amp; BOM名称: 双运放; 版权归属: 源创客; 学习资源: www.ooocke.com
footprint SOP8_N (5*6*1.8mm（长宽高）)
footprint SOP8_L (5*6*1.8mm（长宽高）)
footprint SOP8_M (5*6*1.8mm（长宽高）)
part A pins: 1 OUT1 (out), 2 IN1- (in), 3 IN1- (in), 4 VCC- (power), 8 VCC+ (power)
part B pins: 5 IN2- (in), 6 IN2- (in), 7 OUT2 (out)
part A text: A
part B text: B

## LTC3200
designator U?
Power; Type: SOT23-6
footprint SOT23-6
pins: 1 VOUT, 2 GND, 3 SHDN, 4 CN, 5 VIN, 6 CP

## LTC3426
designator U?
Power; Type: SOT23-6
footprint SOT23-6
pins: 1 SW, 2 GND, 3 FB, 4 ~{SHDN}, 5 VOUT, 6 VIN

## LTC4054
designator U?
Battery Charger; Type: SOT23-5
footprint SOT23-5
pins: 1 CHRG, 2 GND, 3 BAT, 4 VCC, 5 PROG

## MAX232
designator IC?
RS432 to USB; 版权归属: 源创客; BOM名称: MAX232; 学习资源: www.ooocke.com
footprint DIP16-300 (19.3*7.6*3.8(长宽高）)
footprint SOP16_L (10.3*6.2*1.8mm（长宽高）)
footprint SOP16_N (10.3*6.2*1.8mm（长宽高）)
footprint SOP16_M (10.3*6.2*1.8mm（长宽高）)
pins: 1 C1+, 2 VDD, 3 C1-, 4 C2+, 5 C2-, 6 VEE, 7 T2OUT, 8 R2IN, 9 R2OUT, 10 T2IN, 11 T1IN, 12 R1OUT, 13 R1IN, 14 T1OUT, 15 GND, 16 VCC

## MAX4173
designator IC?, comment MAX4173T
High-end current detection; BOM名称: 高端电流检测; 版权归属: 源创客; 学习资源: www.ooocke.com
footprint SOT23-6N (3x1.6x1.1mm(长宽高))
footprint SOT23-6L (3x1.6x1.1mm(长宽高))
footprint SOT23-6M (3x1.6x1.1mm(长宽高))
pins: 1 GND, 2 GND, 3 VCC, 4 RS+, 5 RS-, 6 OUT

## MAX7219/21
designator U?  (value not drawn)
Driver
footprint SOP_E300_24
pins: 1 DIN, 2 DIG 0, 3 DIG 4, 4 GND, 5 DIG 6, 6 DIG 2, 7 DIG 3, 8 DIG 7, 9 GND, 10 DIG 5, 11 DIG 1, 12 CS, 13 CLK, 14 SEG A, 15 SEG F, 16 SEG B, 17 SEG G, 18 ISET, 19 V+, 20 SEG C, 21 SEG E, 22 SEG P, 23 SEG D, 24 DOUT

## MC34063
designator IC?
DC lifting and lowering chip; BOM名称: DC升降压芯片; 版权归属: 源创客; 学习资源: www.ooocke.com
footprint SOP8_L (5*6*1.8mm（长宽高）)
footprint SOP8_N (5*6*1.8mm（长宽高）)
footprint SOP8_M (5*6*1.8mm（长宽高）)
footprint DIP8-300 (9.4*7.6*3.8(长宽高）)
pins: 1 SWC, 2 SWE, 3 TC, 4 GND, 5 CII, 6 VCC, 7 IPK, 8 DEC

## ME2100
designator IC?, comment ME2100FM5G
Adjustable boost chip; BOM名称: 可调升压芯片; 版权归属: 源创客; 学习资源: www.ooocke.com
footprint SOT23-5N (3x1.6x1.1mm(长宽高))
footprint SOT23-5L (3x1.6x1.1mm(长宽高))
footprint SOT23-5M (3x1.6x1.1mm(长宽高))
pins: 1 FB, 2 VDD, 3 NC, 4 GND, 5 EXT

## ME4057
designator IC?
Lithium battery charge management IC; BOM名称: 充电管理IC; 版权归属: 源创客; 学习资源: www.ooocke.com
footprint SOP8_N (5*6*1.8mm（长宽高）)
footprint SOP8_L (5*6*1.8mm（长宽高）)
footprint SOP8_M (5*6*1.8mm（长宽高）)
pins: 1 TEMP, 2 PROG, 3 GND, 4 VCC, 5 BAT, 6 ~{STDBY}, 7 ~{CHRG}, 8 CE

## MP1584
designator IC?
DC step-down chip
footprint SOP8_N-EP (5*6*1.8mm£¨³¤¿í¸ß£©)
footprint SOP8_L-EP (5*6*1.8mm£¨³¤¿í¸ß£©)
footprint SOP8_M-EP (5*6*1.8mm£¨³¤¿í¸ß£©)
pins: 1 SW, 2 EN, 3 COMP, 4 FB, 5 GND, 6 FREQ, 7 VIN, 8 SBT, 9 EP

## MP3302
designator U?
WLED Driver
footprint SOT23-5
pins: 1 SW, 2 GND, 3 FB, 4 EN, 5 IN

## MPU6050
designator IC?
Six-axis accelerometer
footprint QFN24
pins: 0 GND, 1 CLKIN, 2 NC, 3 NC, 4 NC, 5 NC, 6 AUX_DA, 7 AUX_CL, 8 VLOGIC, 9 AD0, 10 REGOUT, 11 FSYNC, 12 INT, 13 VDD, 14 NC, 15 NC, 16 NC, 17 NC, 18 GND, 19 RESV, 20 CPOUT, 21 RESV, 22 RESV, 23 SCL, 24 SDA

## NE5532
designator IC?
Dual low noise audio op amp; BOM名称: 双路低噪声音频运放; 版权归属: 源创客; 学习资源: www.ooocke.com
footprint SOP8_L (5*6*1.8mm（长宽高）)
footprint SOP8_N (5*6*1.8mm（长宽高）)
footprint SOP8_M (5*6*1.8mm（长宽高）)
footprint DIP8-300 (9.4*7.6*3.8(长宽高）)
part A pins: 1 OUT1 (out), 2 IN1- (in), 3 IN1- (in), 4 VCC- (power), 8 VCC+ (power)
part B pins: 5 IN2- (in), 6 IN2- (in), 7 OUT2 (out)
part A text: A
part B text: B

## OP07
designator IC?
Single precision op amp; BOM名称: 单路精密运放; 版权归属: 源创客; 学习资源: www.ooocke.com
footprint SOP8_L (5*6*1.8mm（长宽高）)
footprint SOP8_N (5*6*1.8mm（长宽高）)
footprint SOP8_M (5*6*1.8mm（长宽高）)
footprint DIP8-300 (9.4*7.6*3.8(长宽高）)
pins: 1, 2 IN- (in), 3 IN+ (in), 4 V- (power), 6 OUT (out), 7 V+ (power), 8
text: A

## PCA9685
designator U?
16-channel, 12-bit PWM Fm+ I2C-bus PWM LED controller , Servo Motor
footprint TSSOP28 (Shrink Small Outline; 28 Leads; Body Width 4.4 mm; Pitch 0.65 mm)
pins: 1 A0, 2 A1, 3 A2, 4 A3, 5 A4, 6 OUT0, 7 OUT1, 8 OUT2, 9 OUT3, 10 OUT4, 11 OUT5, 12 OUT6, 13 OUT7, 14 GND, 15 OUT8, 16 OUT9, 17 OUT10, 18 OUT11, 19 OUT12, 20 OUT13, 21 OUT14, 22 OUT15, 23 OE/, 24 A5, 25 EXTCLK, 26 SCL, 27 SDA, 28 VCC

## PCF8574
designator U?
Remote 8-Bit I/O Expander for I  2C Bus
footprint WSO16_M (16-Pin Small Outline Integrated Circuit 1.27 mm Pitch, IPC Low Density)
pins: 1 A0, 2 A1, 3 A2, 4 P0, 5 P1, 6 P2, 7 P3, 8 GND, 9 P4, 10 P5, 11 P6, 12 P7, 13 INT, 14 SCL, 15 SDA, 16 VCC

## PN8370
designator IC?
Power management IC; BOM名称: 电源管理IC; 版权归属: 源创客; 学习资源: www.ooocke.com
footprint SOP8_N (5*6*1.8mm（长宽高）)
footprint SOP8_M (5*6*1.8mm（长宽高）)
footprint SOP8_L (5*6*1.8mm（长宽高）)
pins: 1 VCC, 2 NC, 3 FB, 4 CS, 5 SW, 6 SW, 7 NC, 8 GND

## PT4115
designator IC?
High-power LED driver, MAX1.2A
footprint SOT89-5L (4.6x4.3x1.6mm(长宽高))
footprint SOT89-5M (4.6x4.3x1.6mm(长宽高))
footprint SOT89-5N (4.6x4.3x1.6mm(长宽高))
pins: 1 SW, 2 GND, 3 DIM, 4 CSN, 5 VIN

## REF196
designator V?
3V3 reference voltage source; BOM名称: 3V3基准电压; 版权归属: 源创客; 学习资源: www.ooocke.com
footprint SOP8_L (5*6*1.8mm（长宽高）)
footprint SOP8_N (5*6*1.8mm（长宽高）)
footprint SOP8_M (5*6*1.8mm（长宽高）)
pins: 1 NC, 2 Vin, 3 ~{SLEEP}, 4 GND, 5 NC, 6 OUT, 7 NC, 8 NC

## RT9193
designator U?
Power; Value: 3V3; Type: SOT23-5
footprint SOT23-5
pins: 1 VIN, 2 GND, 3 EN (power), 4 BYP, 5 VOUT

## SG3525
designator IC?
Switching Power Management IC; BOM名称: 电源管理IC; 版权归属: 源创客; 学习资源: www.ooocke.com
footprint DIP16-300 (19.3*7.6*3.8(长宽高）)
footprint SOP16_L (10.3*6.2*1.8mm（长宽高）)
footprint SOP16_N (10.3*6.2*1.8mm（长宽高）)
footprint SOP16_M (10.3*6.2*1.8mm（长宽高）)
pins: 1 IN-, 2 IN+, 3 SYNC, 4 OSC, 5 Ct, 6 Rt, 7 DISC, 8 SOFT, 9 COMP, 10 SHUR, 11 A_E, 12 GND, 13 V C, 14 B_E, 15 VCC, 16 REF

## SN65HVD230
designator IC?
CAN chip; BOM名称: CAN芯片; 版权归属: 源创客; 学习资源: www.ooocke.com
footprint SOP8_N (5*6*1.8mm（长宽高）)
footprint SOP8_L (5*6*1.8mm（长宽高）)
footprint SOP8_M (5*6*1.8mm（长宽高）)
pins: 1 D, 2 GND, 3 VCC, 4 Rx, 5 Vref, 6 CANL, 7 CANH, 8 Rs

## SP3485
designator IC?
485 bus chip; BOM名称: 485总线芯片; 版权归属: 源创客; 学习资源: www.ooocke.com
footprint SOP8_N (5*6*1.8mm（长宽高）)
footprint SOP8_L (5*6*1.8mm（长宽高）)
footprint SOP8_M (5*6*1.8mm（长宽高）)
pins: 1 RO, 2 RE, 3 DE, 4 DI, 5 GND, 6 A, 7 B, 8 VCC

## SP6205
designator U?
Power; Value: 3V3; Type: SOT23-5
footprint SOT23-5
pins: 1 VIN, 2 GND, 3 EN (power), 4 BYP, 5 VOUT

## SPX3819
designator *
500mA Low-Noise LDO Voltage Regulator
footprint SOT23-5M (3x1.6x1.1mm(�����))
footprint SOT23-5N (3x1.6x1.1mm(�����))
footprint SOT23-5L (3x1.6x1.1mm(�����))
pins: 1 VIN (power), 2 GND (power), 3 EN (in), 4 VOUT (power), 5 ADJ/BYP (in)

## STM6601
designator U?, comment STM6600/1
Smart push-button on/off controller with Smart Reset™ and  power-on lockout
footprint TDFN12
pins: 1 VCC, 2 SR, 3 VREF, 4 PSHOLD, 5 CSRD, 6 PB, 7 VCCLO, 8 PBOUT, 9 EN, 10 RST, 11 INT, 12 GND

## TB6612fng
designator U*
2-way DC motor drive
footprint SSOP24_M (8.3*7.8*1.6（长宽高）)
footprint SSOP24_N (8.3*7.8*1.6（长宽高）)
footprint SSOP24_L (8.3*7.8*1.6（长宽高）)
pins: 1 AO1, 2 AO1, 3 PGND, 4 PGND, 5 AO2, 6 AO2, 7 BO2, 8 BO2, 9 PGND, 10 PGND, 11 BO1, 12 BO1, 13 VM, 14 VM, 15 PWMB, 16 BIN2, 17 BIN1, 18 GND, 19 STBY, 20 VCC, 21 AIN1, 22 AIN2, 23 PWMA, 24 VM

## TCA8418RTWR
designator TCA
I2C Controlled Keypad Scan IC 24-Pin WQFN EP T/R; MF: Texas Instruments; Package: WQFN-24 Texas Instruments; MP: TCA8418RTWR; Availability: Unavailable; Price: None; SnapEDA_Link: https://www.snapeda.com/parts/TCA8418RTWR/Texas%20Instruments/view-part/?ref=snap; Value: *
footprint QFN24
pins: 1 ROW7 (io), 2 ROW6 (io), 3 ROW5 (io), 4 ROW4 (io), 5 ROW3 (io), 6 ROW2 (io), 7 ROW1 (io), 8 ROW0 (io), 9 COL0 (io), 10 COL1 (io), 11 COL2 (io), 12 COL3 (io), 13 COL4 (io), 14 COL5 (io), 15 COL6 (io), 16 COL7 (io), 17 COL8 (io), 18 COL9 (io), 19 GND, 20 ~{RESET} (in), 21 VCC (power), 22 SDA (io), 23 SCL (in), 24 ~{INT} (out), 25 EP

## TDA2003
designator IC?
Single audio amplifier; BOM名称: 单路音频功放; 版权归属: 源创客; 学习资源: www.ooocke.com
footprint SOP8_L (5*6*1.8mm（长宽高）)
footprint SOP8_N (5*6*1.8mm（长宽高）)
footprint SOP8_M (5*6*1.8mm（长宽高）)
footprint DIP8-300 (9.4*7.6*3.8(长宽高）)
pins: 1 IN+ (in), 2 IN- (in), 3 VCC- (power), 4 OUT (out), 5 VCC+ (power)
text: A

## TL431
designator IC?
Adjustable reference regulator chip; BOM名称: 可调基准稳压芯片; 版权归属: 源创客; 学习资源: www.ooocke.com
footprint TO92A (92晶体管)
footprint TO92B (92晶体管)
footprint SOT23-3L (3x1.3x1mm(长宽高))
footprint SOT23-3M (3x1.3x1mm(长宽高))
footprint SOT23-3N (3x1.3x1mm(长宽高))
pins: 1 R, 2 A, 3 K

## TL494
designator IC?
Power management IC; BOM名称: 电源管理IC; 版权归属: 源创客; 学习资源: www.ooocke.com
footprint DIP16-300 (19.3*7.6*3.8(长宽高）)
footprint SOP16_L (10.3*6.2*1.8mm（长宽高）)
footprint SOP16_N (10.3*6.2*1.8mm（长宽高）)
footprint SOP16_M (10.3*6.2*1.8mm（长宽高）)
pins: 1 IN1 +, 2 IN1 -, 3 COMP, 4 D.T, 5 Ct, 6 Rt, 7 GND, 8 C1, 9 E1, 10 E2, 11 C2, 12 VCC, 13 O.C, 14 Vref, 15 IN2 -, 16 IN2 +

## TLC5947
designator U?  (value not drawn)
LED Driver; Type: *
footprint TSSOP_E250H_P0.65_32
pins: 1 GND, 2 BLANK, 3 SCLK, 4 SIN, 5 OUT0, 6 OUT1, 7 OUT2, 8 OUT3, 9 OUT4, 10 OUT5, 11 OUT6, 12 OUT7, 13 OUT8, 14 OUT9, 15 OUT10, 16 OUT11, 17 OUT12, 18 OUT13, 19 OUT14, 20 OUT15, 21 OUT16, 22 OUT17, 23 OUT18, 24 OUT19, 25 OUT20, 26 OUT21, 27 OUT22, 28 OUT23, 29 SOUT, 30 XTAL, 31 IREF, 32 VCC

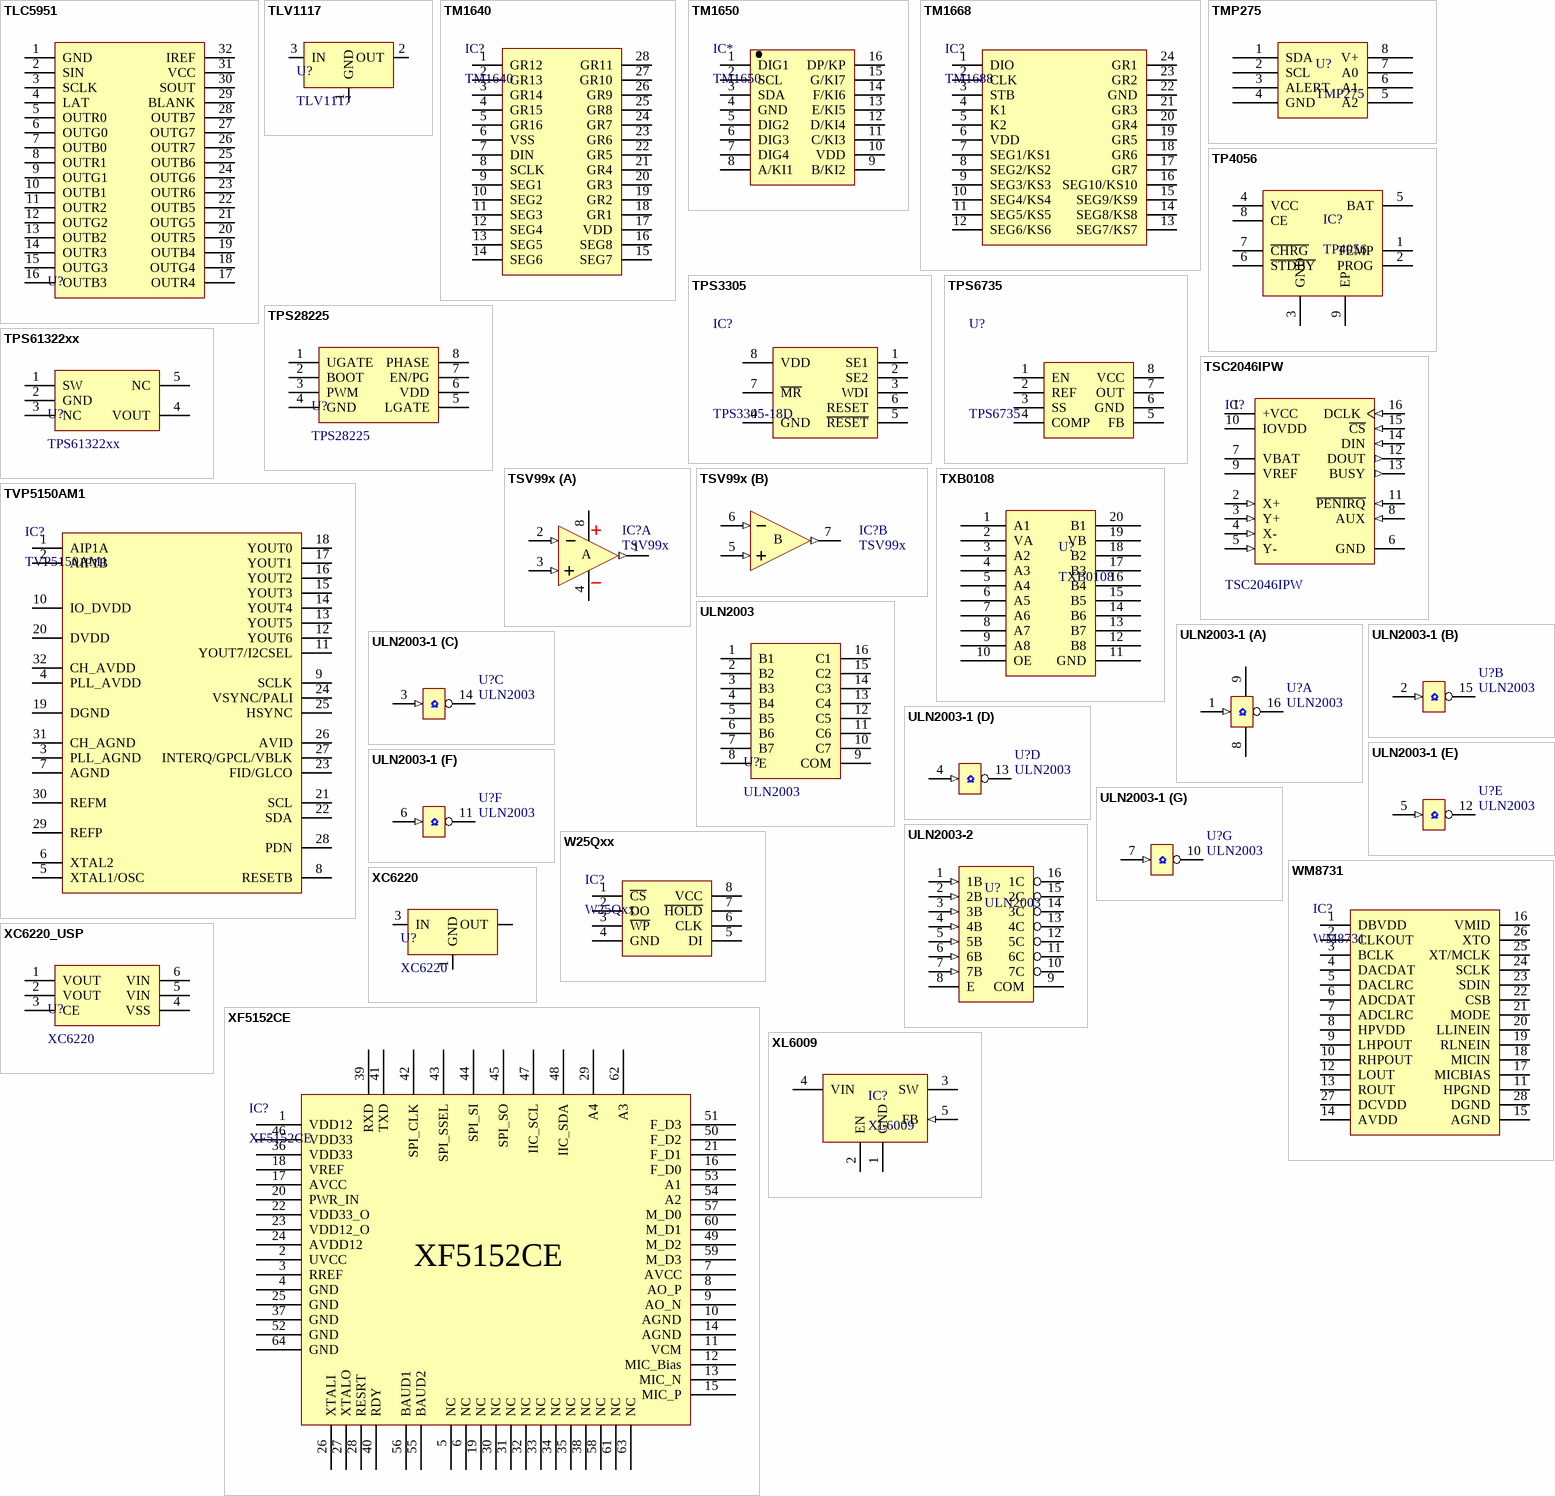
[diagram p3: symbols TLC5951 to XL6009]

## TLC5951
designator U?  (value not drawn)
LED Driver; Type: *
footprint TSSOP_E250H_P0.65_32
pins: 1 GND, 2 SIN, 3 SCLK, 4 LAT, 5 OUTR0, 6 OUTG0, 7 OUTB0, 8 OUTR1, 9 OUTG1, 10 OUTB1, 11 OUTR2, 12 OUTG2, 13 OUTB2, 14 OUTR3, 15 OUTG3, 16 OUTB3, 17 OUTR4, 18 OUTG4, 19 OUTB4, 20 OUTR5, 21 OUTG5, 22 OUTB5, 23 OUTR6, 24 OUTG6, 25 OUTB6, 26 OUTR7, 27 OUTG7, 28 OUTB7, 29 BLANK, 30 SOUT, 31 VCC, 32 IREF

## TLV1117
designator U?
Power; Type: *
footprint SOT223-3
pins: 1 GND (power), 2 OUT (power), 3 IN (power)

## TM1640
designator IC?
LED drive control chip; BOM名称: LED驱动控制芯片; 版权归属: 源创客; 学习资源: www.ooocke.com
footprint SOP28_L (17.9*10.6*2.6mm（长宽高）)
footprint SOP28_M (17.9*10.6*2.6mm（长宽高）)
footprint SOP28_N (17.9*10.6*2.6mm（长宽高）)
pins: 1 GR12, 2 GR13, 3 GR14, 4 GR15, 5 GR16, 6 VSS, 7 DIN, 8 SCLK, 9 SEG1, 10 SEG2, 11 SEG3, 12 SEG4, 13 SEG5, 14 SEG6, 15 SEG7, 16 SEG8, 17 VDD, 18 GR1, 19 GR2, 20 GR3, 21 GR4, 22 GR5, 23 GR6, 24 GR7, 25 GR8, 26 GR9, 27 GR10, 28 GR11

## TM1650
designator IC*
Four digital tube driver
footprint SOP16_L (10.3*6.2*1.8mm（长宽高）)
footprint SOP16_M (10.3*6.2*1.8mm（长宽高）)
footprint SOP16_N (10.3*6.2*1.8mm（长宽高）)
pins: 1 DIG1, 2 SCL, 3 SDA, 4 GND, 5 DIG2, 6 DIG3, 7 DIG4, 8 A/KI1, 9 B/KI2, 10 VDD, 11 C/KI3, 12 D/KI4, 13 E/KI5, 14 F/KI6, 15 G/KI7, 16 DP/KP

## TM1668
designator IC?, comment TM1688
Digital tube button scanning chip; BOM名称: 数码管按键芯片; 版权归属: 源创客; 学习资源: www.ooocke.com
footprint SOP24_N (15.4*10.6*2.6mm（长宽高）)
footprint SOP24_L (15.4*10.6*2.6mm（长宽高）)
footprint SOP24_M (15.4*10.6*2.6mm（长宽高）)
pins: 1 DIO, 2 CLK, 3 STB, 4 K1, 5 K2, 6 VDD, 7 SEG1/KS1, 8 SEG2/KS2, 9 SEG3/KS3, 10 SEG4/KS4, 11 SEG5/KS5, 12 SEG6/KS6, 13 SEG7/KS7, 14 SEG8/KS8, 15 SEG9/KS9, 16 SEG10/KS10, 17 GR7, 18 GR6, 19 GR5, 20 GR4, 21 GR3, 22 GND, 23 GR2, 24 GR1

## TMP275
designator U?
Temperature Sensor with I2C and SMBus Interface
footprint SOIC8N_L (8-Pin Small Outline Integrated Circuit 1.27 mm Pitch, IPC High Density)
pins: 1 SDA, 2 SCL, 3 ALERT, 4 GND, 5 A2, 6 A1, 7 A0, 8 V+

## TP4056
designator IC?
Lithium battery charge management; BOM名称: 锂电池充电管理; 版权归属: 源创客; 学习资源: www.ooocke.com
footprint SOP8_L-EP (5*6*1.8mm£¨³¤¿í¸ß£©)
footprint SOP8_N-EP (5*6*1.8mm£¨³¤¿í¸ß£©)
footprint SOP8_M-EP (5*6*1.8mm£¨³¤¿í¸ß£©)
pins: 1 TEMP, 2 PROG, 3 GND, 4 VCC, 5 BAT, 6 ~{STDBY}, 7 ~{CHRG}, 8 CE, 9 EP

## TPS3305
designator IC?, comment TPS3305-18D
DSP power management; BOM名称: DSP电源管理; 版权归属: 源创客; 学习资源: www.ooocke.com
footprint SSOP8_N (3*6.4*1.2mm（长宽高）)
footprint SSOP8_L (3*6.4*1.2mm（长宽高）)
footprint SSOP8_M (3*6.4*1.2mm（长宽高）)
pins: 1 SE1, 2 SE2, 3 WDI, 4 GND, 5 ~{RESET}, 6 RESET, 7 ~{MR}, 8 VDD

## TPS6735
designator U?
Negative voltage conversion chip; BOM名称: 负电压芯片; 版权归属: 源创客; 学习资源: www.ooocke.com
footprint SOP8_N (5*6*1.8mm（长宽高）)
footprint SOP8_L (5*6*1.8mm（长宽高）)
footprint SOP8_M (5*6*1.8mm（长宽高）)
pins: 1 EN, 2 REF, 3 SS, 4 COMP, 5 FB, 6 GND, 7 OUT, 8 VCC

## TPS28225
designator U?
MOSFET Driver; Type: *
footprint SOP_E150_8
pins: 1 UGATE, 2 BOOT, 3 PWM, 4 GND, 5 LGATE, 6 VDD, 7 EN/PG, 8 PHASE

## TPS61322xx
designator U?
Power; Value: 5V; Type: SOT23-5
footprint SOT23-5
pins: 1 SW, 2 GND, 3 NC, 4 VOUT, 5 NC

## TSC2046IPW
designator IC?
Display touch drive chip; BOM名称: 触摸驱动芯片; 版权归属: 源创客; 学习资源: www.ooocke.com
footprint TSSOP16_N (5*6.4*1mm（长宽高）)
footprint TSSOP16_L (5*6.4*1mm（长宽高）)
footprint TSSOP16_M (5*6.4*1mm（长宽高）)
pins: 1 +VCC (power), 2 X+ (in), 3 Y+ (in), 4 X- (in), 5 Y- (in), 6 GND (power), 7 VBAT (power), 8 AUX (in), 9 VREF (power), 10 IOVDD (power), 11 ~{PENIRQ} (in), 12 DOUT (out), 13 BUSY (out), 14 DIN (in), 15 ~{CS} (in), 16 DCLK (in)

## TSV99x
designator IC?
Rail-to-rail input/output 20 MHz GBP op amp; BOM名称: 双路运放; 版权归属: 源创客; 学习资源: www.ooocke.com
footprint SOP8_L (5*6*1.8mm（长宽高）)
footprint SOP8_N (5*6*1.8mm（长宽高）)
footprint SOP8_M (5*6*1.8mm（长宽高）)
part A pins: 1 OUT1 (out), 2 IN1- (in), 3 IN1- (in), 4 VCC- (power), 8 VCC+ (power)
part B pins: 5 IN2- (in), 6 IN2- (in), 7 OUT2 (out)
part A text: A
part B text: B

## TVP5150AM1
designator IC?
Video decoding chip; BOM名称: 视频解码芯片; 版权归属: 源创客; 学习资源: www.ooocke.com
footprint TQFP32 5x5_N (32脚，体宽：5x5mm, 脚距：0.5mm)
footprint TQFP32 5x5_L (32脚，体宽：5x5mm, 脚距：0.5mm)
footprint TQFP32 5x5_M (32脚，体宽：5x5mm, 脚距：0.5mm)
pins: 1 AIP1A, 2 AIP1B, 3 PLL_AGND, 4 PLL_AVDD, 5 XTAL1/OSC, 6 XTAL2, 7 AGND, 8 RESETB, 9 SCLK, 10 IO_DVDD, 11 YOUT7/I2CSEL, 12 YOUT6, 13 YOUT5, 14 YOUT4, 15 YOUT3, 16 YOUT2, 17 YOUT1, 18 YOUT0, 19 DGND, 20 DVDD, 21 SCL, 22 SDA, 23 FID/GLCO, 24 VSYNC/PALI, 25 HSYNC, 26 AVID, 27 INTERQ/GPCL/VBLK, 28 PDN, 29 REFP, 30 REFM, 31 CH_AGND, 32 CH_AVDD

## TXB0108
designator U?
8-Bit Bidirectional Voltage-Level Translator
footprint SOP20
pins: 1 A1, 2 VA, 3 A2, 4 A3, 5 A4, 6 A5, 7 A6, 8 A7, 9 A8, 10 OE, 11 GND, 12 B8, 13 B7, 14 B6, 15 B5, 16 B4, 17 B3, 18 B2, 19 VB, 20 B1

## ULN2003
designator U?
Darlington Transistor; Type: *; Value: *
footprint SOP_E150_16
footprint DIP_300_16
pins: 1 B1, 2 B2, 3 B3, 4 B4, 5 B5, 6 B6, 7 B7, 8 E, 9 COM, 10 C7, 11 C6, 12 C5, 13 C4, 14 C3, 15 C2, 16 C1

## ULN2003-1
designator U?, comment ULN2003
Darlington driver chip; BOM名称: 达林顿驱动芯片; 版权归属: 源创客; 学习资源: www.ooocke.com
footprint DIP16-300 (19.3*7.6*3.8(长宽高）)
footprint SOP16_N (10.3*6.2*1.8mm（长宽高）)
footprint SOP16_L (10.3*6.2*1.8mm（长宽高）)
footprint SOP16_M (10.3*6.2*1.8mm（长宽高）)
part A pins: 1 IN1 (in), 8 GND, 9 VCC, 16 OUT1 (oc)
part B pins: 2 IN2 (in), 15 OUT2 (oc)
part C pins: 3 IN3 (in), 14 OUT3 (oc)
part D pins: 4 IN4 (in), 13 OUT4 (oc)
part E pins: 5 IN5 (in), 12 OUT5 (oc)
part F pins: 6 IN6 (in), 11 OUT6 (oc)
part G pins: 7 IN7 (in), 10 OUT7 (oc)

## ULN2003-2
designator U?, comment ULN2003
Darlington driver chip; BOM名称: 达林顿驱动芯片; 版权归属: 源创客; 学习资源: www.ooocke.com
footprint DIP16-300 (19.3*7.6*3.8(长宽高）)
footprint SOP16_N (10.3*6.2*1.8mm（长宽高）)
footprint SOP16_L (10.3*6.2*1.8mm（长宽高）)
footprint SOP16_M (10.3*6.2*1.8mm（长宽高）)
pins: 1 1B (in), 2 2B (in), 3 3B (in), 4 4B (in), 5 5B (in), 6 6B (in), 7 7B (in), 8 E, 9 COM, 10 7C (oc), 11 6C (oc), 12 5C (oc), 13 4C (oc), 14 3C (oc), 15 2C (oc), 16 1C (oc)

## W25Qxx
designator IC?
External flash; BOM名称: 外置Flash; 版权归属: 源创客; 学习资源: www.ooocke.com
footprint SOP8W_N (5.3*8.3*1.8mm（长宽高）)
footprint SOP8W_L (5.3*8.3*1.8mm（长宽高）)
footprint SOP8W_M (5.3*8.3*1.8mm（长宽高）)
pins: 1 ~{CS}, 2 DO, 3 ~{WP}, 4 GND, 5 DI, 6 CLK, 7 ~{HOLD}, 8 VCC

## WM8731
designator IC?
Audio PCM codec chip; BOM名称: 音频PCM编解码芯片; 版权归属: 源创客; 学习资源: www.ooocke.com
footprint SSOP28_L (10.2*7.8*1.9mm(长宽高）)
footprint SSOP28_N (10.2*7.8*1.9mm(长宽高）)
footprint SSOP28_M (10.2*7.8*1.9mm(长宽高）)
pins: 1 DBVDD, 2 CLKOUT "DBVDD", 3 BCLK "DBVDD", 4 DACDAT "DBVDD", 5 DACLRC "DBVDD", 6 ADCDAT "DBVDD", 7 ADCLRC "DBVDD", 8 HPVDD "DBVDD", 9 LHPOUT "DBVDD", 10 RHPOUT "DBVDD", 11 HPGND "DBVDD", 12 LOUT "DBVDD", 13 ROUT "DBVDD", 14 AVDD "DBVDD", 15 AGND "DBVDD", 16 VMID "DBVDD", 17 MICBIAS "DBVDD", 18 MICIN "DBVDD", 19 RLNEIN "DBVDD", 20 LLINEIN "DBVDD", 21 MODE "DBVDD", 22 CSB "DBVDD", 23 SDIN "DBVDD", 24 SCLK "DBVDD", 25 XT/MCLK "DBVDD", 26 XTO "DBVDD", 27 DCVDD "DBVDD", 28 DGND "DBVDD"

## XC6220
designator U?
Power; Type: *; Value: *
footprint SOT89-3
pins: 1 GND (power), 2 OUT (power), 3 IN (power)

## XC6220_USP
designator U?, comment XC6220
Power; Type: *; Value: *
footprint SON_P0.5H_6
pins: 1 VOUT, 2 VOUT, 3 CE, 4 VSS, 5 VIN, 6 VIN, 7

## XF5152CE
designator IC?
Speech recognition synthesis chip; BOM名称: 语音合成芯片; 版权归属: 源创客; 学习资源: www.ooocke.com
footprint LQFP64 10X10_N (64脚，体宽10x10mm，脚距0.5mm)
footprint LQFP64 10X10_M (64脚，体宽10x10mm，脚距0.5mm)
footprint LQFP64 10X10_L (64脚，体宽10x10mm，脚距0.5mm)
pins: 1 VDD12 "DBVDD", 2 UVCC "DBVDD", 3 RREF "DBVDD", 4 GND "DBVDD", 5 NC "DBVDD", 6 NC "DBVDD", 7 AVCC "DBVDD", 8 AO_P "DBVDD", 9 AO_N "DBVDD", 10 AGND "DBVDD", 11 VCM "DBVDD", 12 MIC_Bias "DBVDD", 13 MIC_N "DBVDD", 14 AGND "DBVDD", 15 MIC_P "DBVDD", 16 F_D0 "DBVDD", 17 AVCC "DBVDD", 18 VREF "DBVDD", 19 NC "DBVDD", 20 PWR_IN "DBVDD", 21 F_D1 "DBVDD", 22 VDD33_O "DBVDD", 23 VDD12_O "DBVDD", 24 AVDD12 "DBVDD", 25 GND "DBVDD", 26 XTALI "DBVDD", 27 XTALO "DBVDD", 28 RESRT "DBVDD", 29 A4 "DBVDD", 30 NC "DBVDD", 31 NC "DBVDD", 32 NC "DBVDD", 33 NC "DBVDD", 34 NC "DBVDD", 35 NC "DBVDD", 36 VDD33 "DBVDD", 37 GND "DBVDD", 38 NC "DBVDD", 39 RXD "DBVDD", 40 RDY "DBVDD", 41 TXD "DBVDD", 42 SPI_CLK "DBVDD", 43 SPI_SSEL "DBVDD", 44 SPI_SI "DBVDD", 45 SPI_SO "DBVDD", 46 VDD33 "DBVDD", 47 IIC_SCL "DBVDD", 48 IIC_SDA "DBVDD", 49 M_D2 "DBVDD", 50 F_D2 "DBVDD", 51 F_D3 "DBVDD", 52 GND "DBVDD", 53 A1 "DBVDD", 54 A2 "DBVDD", 55 BAUD2 "DBVDD", 56 BAUD1 "DBVDD", 57 M_D0 "DBVDD", 58 NC "DBVDD", 59 M_D3 "DBVDD", 60 M_D1 "DBVDD", 61 NC "DBVDD", 62 A3 "DBVDD", 63 NC "DBVDD", 64 GND "DBVDD"

## XL6009
designator IC?
DC boost chip
footprint TO263-5A (263£¬5½Å¾§Ìå¹Ü)
pins: 1 GND (power), 2 EN, 3 SW (power), 4 VIN (power), 5 FB (in)